# Altium schematic symbol library national-video.SchLib: 2 symbols
Pins are listed as number, name and electrical type; pins without a type are passive.

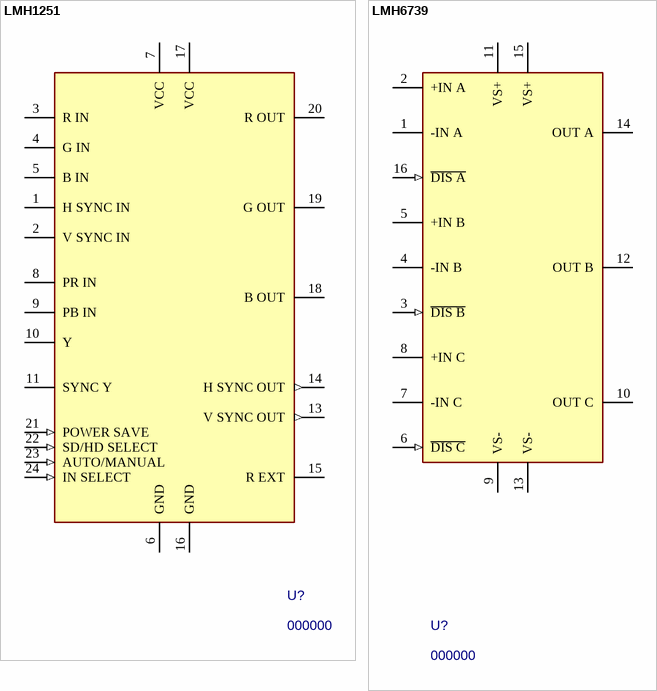
[diagram p0: symbols LMH1251 to LMH6739]

## LMH1251
designator U?, comment 000000  value LMH1251
YPBPR   to RGBHV Converter and 2:1 Video Switch; Package: TSSOP-24; PN: 000000; ExtraInfo: *
footprint MTC24 (TSOP, 24-Leads, Body 7.9x4.5mm (max), Pitch 0.65mm, IPC High Density)
pins: 1 H SYNC IN, 2 V SYNC IN, 3 R IN, 4 G IN, 5 B IN, 6 GND (power), 7 VCC (power), 8 PR IN, 9 PB IN, 10 Y, 11 SYNC Y, 13 V SYNC OUT (out), 14 H SYNC OUT (out), 15 R EXT, 16 GND, 17 VCC, 18 B OUT, 19 G OUT, 20 R OUT, 21 POWER SAVE (in), 22 SD/HD SELECT (in), 23 AUTO/MANUAL (in), 24 IN SELECT (in)

## LMH6739
designator U?, comment 000000  value LMH6739
Very Wideband, Low Distortion Triple Video Buffer; Package: TSSOP-16; PN: 000000; ExtraInfo: *
footprint MQA16 (SOP, 16-Leads, Body 5.0x4.0mm (max), Pitch 0.63mm, IPC High Density)
pins: 1 -IN A, 2 +IN A, 3 ~{DIS B} (in), 4 -IN B, 5 +IN B, 6 ~{DIS C} (in), 7 -IN C, 8 +IN C, 9 VS- (power), 10 OUT C, 11 VS+ (power), 12 OUT B, 13 VS-, 14 OUT A, 15 VS+, 16 ~{DIS A} (in)